# EAGLE library part ISO1540 (library wolfi)
ISO1540 Low-Power Bidirectional I2C Isolators http://www.ti.com/product/ISO1540
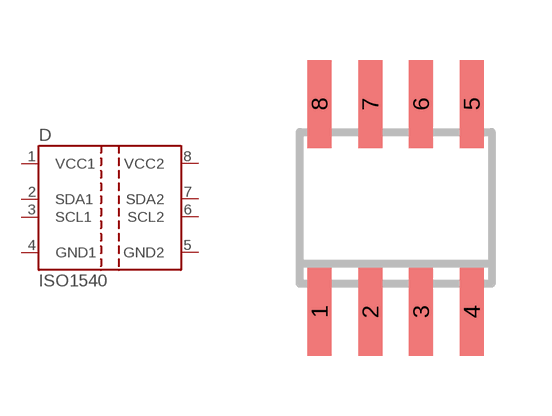
[diagram p24: symbol with the pads of SO08; footprint SO08]

Designator prefix D

## ISO1540D  [SO08]
1  VCC1  pwr
2  SDA1
3  SCL1
4  GND1  pwr
5  GND2  pwr
6  SCL2
7  SDA2
8  VCC2  pwr

## Footprint SO08 (pad centres in mm)
Small Outline Package 8 NS Package M08A
smd 0.6 x 2.2: 1 -1.905,-2.6; 2 -0.635,-2.6; 3 0.635,-2.6; 4 1.905,-2.6; 5 1.905,2.6; 6 0.635,2.6; 7 -0.635,2.6; 8 -1.905,2.6